# Altium footprint library PcbLib.PcbLib: 3 footprints
Each footprint in its own frame and in the unit in brackets; x right, y up, seen from the top. Pads: shape width x height; smd on the part's side, far side on the other; paste and mask are expansions set on the pad; w line width, h text height; cw(c..) or ccw(c..) is an arc to the next point about the centre after c.
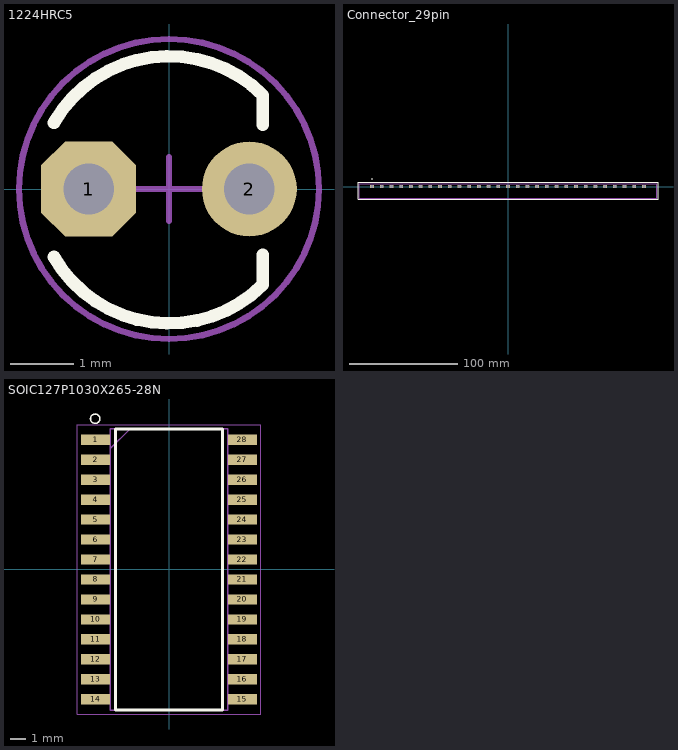
[diagram p0: the footprints below, top view; thin cyan lines are the x and y axes]

## 1224HRC5 [mm]
pads (2):
  oct 1.5x1.5 hole 0.8: 1(-1.27,0)
  round 1.5 hole 0.8: 2(1.27,0)
Top Overlay:
  lines w0.2: -1.819,-1.075 ccw(c0,-0.025) 1.485,-1.51 1.485,-1.04 ; -1.819,1.05 cw(c0,0) 1.485,1.485 1.485,1.015
Mechanical 1:
  circle w0.1: c0,0 r2.372
Mechanical 15:
  circle w0.1: c0,0 r2.372
  lines w0.1: -0.5,0 0.5,0 ; 0,-0.5 0,0.5
3D body "3mm_led_red.STEP": height 12, standoff -1, extent -2,-2 2,2

## Connector_29pin [mm]
pads (29):
  rrect50% 3.5x3 hole 2 slot 2.5 at 0 deg: 1(-126,0) 2(-117,0) 3(-108,0) 4(-99,0) 5(-90,0) 6(-81,0) 7(-72,0) 8(-63,0) 9(-54,0) 10(-45,0) 11(-36,0) 12(-27,0) 13(-18,0) 14(-9,0) 15(0,0) 16(9,0) 17(18,0) 18(27,0) 19(36,0) 20(45,0) 21(54,0) 22(63,0) 23(72,0) 24(81,0) 25(90,0) 26(99,0) 27(108,0) 28(117,0) 29(126,0)
Top Overlay:
  circle w1: c-126,7 r0.4
  lines w0.5: -139,-12 -139,4 139,4 139,-12 -139,-12
Drill Guide:
  circle w0.254: c-134.27,-4.25 r1.8
  circle w0.254: c134.27,-4.25 r1.8
  lines w0.254: -137.67,-4.25 -136.07,-4.25 -132.47,-4.25 ; -134.27,-6.25 -134.27,-4.25 -134.27,-2.25 ; 132.47,-4.25 136.07,-4.25 137.67,-4.25 ; 134.27,-6.25 134.27,-4.25 134.27,-2.25
Mechanical 1:
  lines w0.254: -137.67,-11 137.67,-11 137.67,2.5 -137.67,2.5 -137.67,-11

## SOIC127P1030X265-28N [mm]
pads (28):
  rect 1.85x0.65 smd: 1(-4.675,8.255) 2(-4.675,6.985) 3(-4.675,5.715) 4(-4.675,4.445) 5(-4.675,3.175) 6(-4.675,1.905) 7(-4.675,0.635) 8(-4.675,-0.635) 9(-4.675,-1.905) 10(-4.675,-3.175) 11(-4.675,-4.445) 12(-4.675,-5.715) 13(-4.675,-6.985) 14(-4.675,-8.255) 15(4.675,-8.255) 16(4.675,-6.985) 17(4.675,-5.715) 18(4.675,-4.445) 19(4.675,-3.175) 20(4.675,-1.905) 21(4.675,-0.635) 22(4.675,0.635) 23(4.675,1.905) 24(4.675,3.175) 25(4.675,4.445) 26(4.675,5.715) 27(4.675,6.985) 28(4.675,8.255)
Top Overlay:
  circle w0.1: c-4.7,9.6 r0.3
  lines w0.2: -3.4,-8.95 3.4,-8.95 3.4,8.95 -3.4,8.95 -3.4,-8.95
Mechanical 13:
  lines w0.1: -3.75,7.68 -2.48,8.95 ; -3.75,-8.95 3.75,-8.95 3.75,8.95 -3.75,8.95 -3.75,-8.95
Mechanical 15:
  lines w0.05: -5.85,-9.2 5.85,-9.2 5.85,9.2 -5.85,9.2 -5.85,-9.2
3D body "MCP23017-E_SO.stp": height 2.65, standoff 0, extent -5.15,-8.95 5.15,8.95